# Altium footprint library Miscellaneous.PcbLib: 70 footprints (part 1 of 5)
Each footprint in its own frame and in the unit in brackets; x right, y up, seen from the top. Pads: shape width x height; smd on the part's side, far side on the other; paste and mask are expansions set on the pad; w line width, h text height; cw(c..) or ccw(c..) is an arc to the next point about the centre after c.
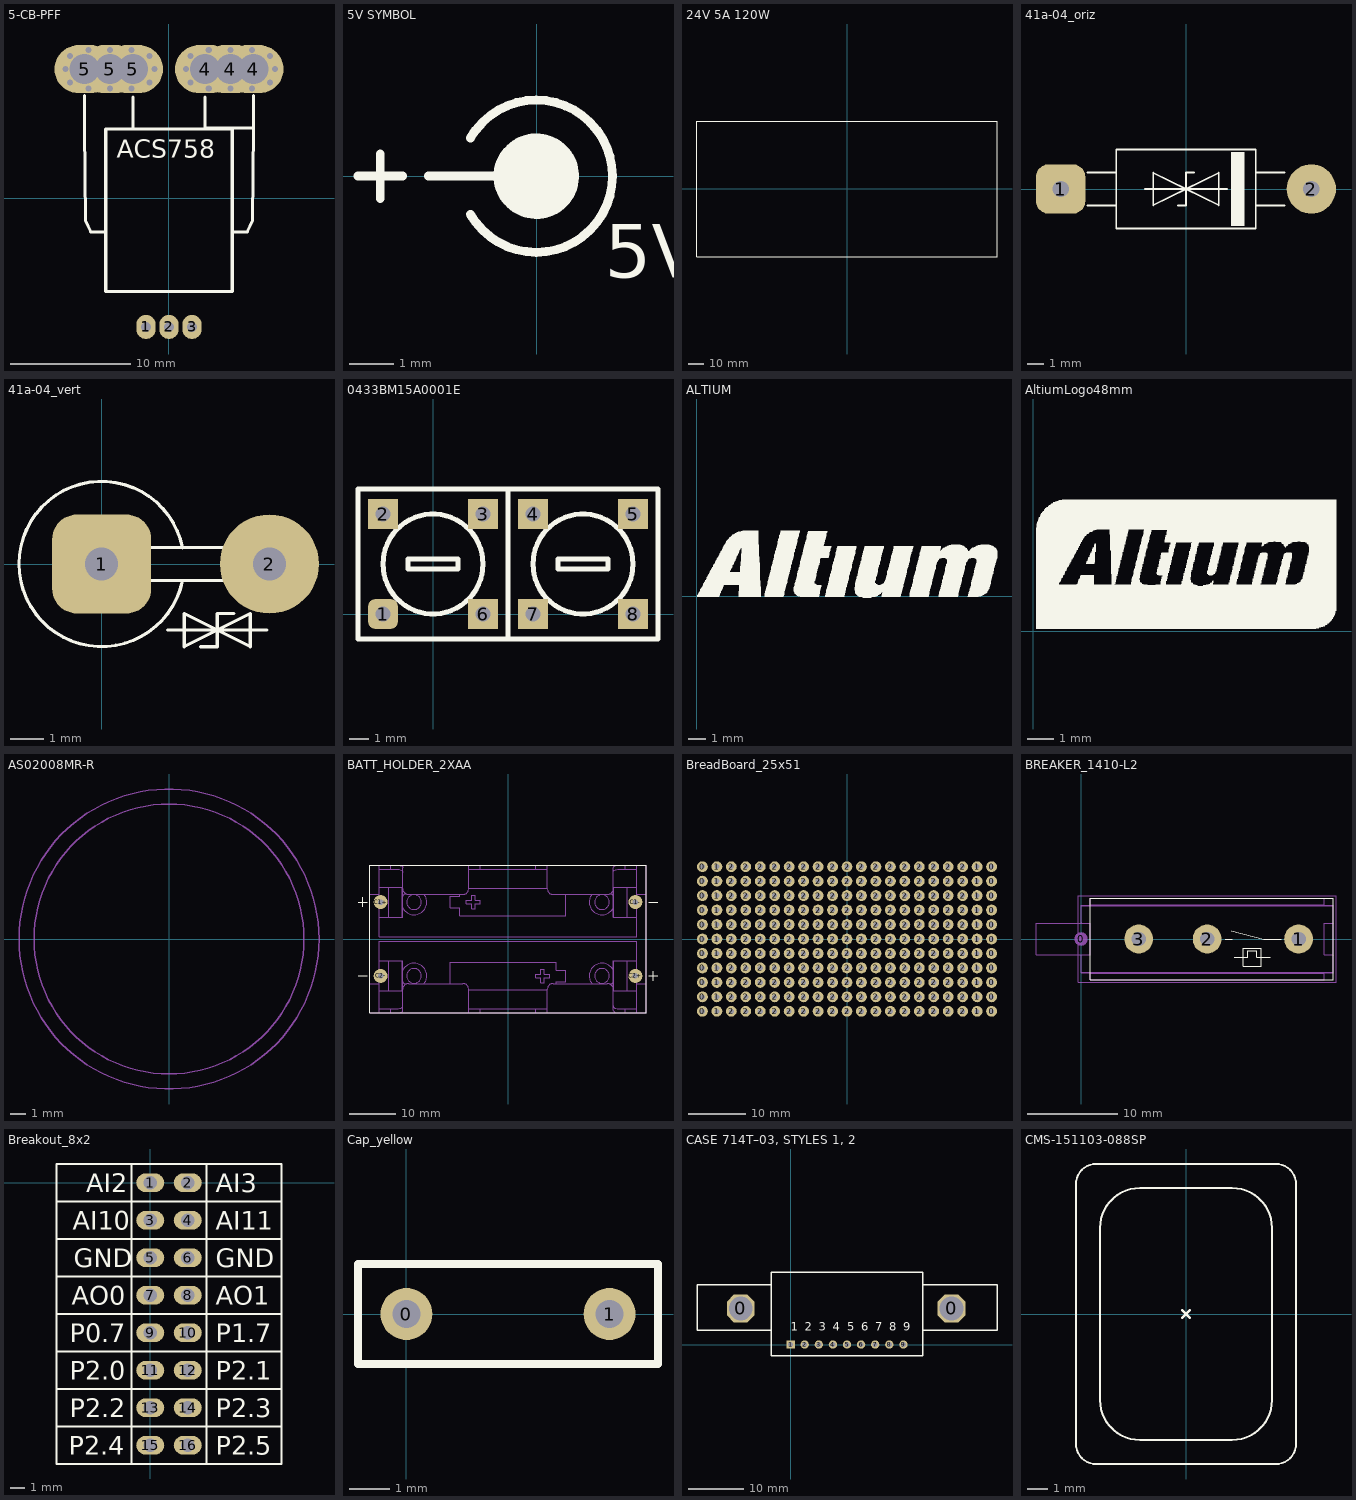
[diagram p0: the footprints below, top view; thin cyan lines are the x and y axes]

## 5-CB-PFF [mm]
pads (9):
  oval 1.6x2 hole 0.8: 1(-1.91,-10.7) 2(0,-10.7) 3(1.91,-10.7)
  oval 5x4 hole 2.5: 4(3,10.7) 4(5.1,10.7) 4(7,10.7) 5(-7,10.7) 5(-4.9,10.7) 5(-3,10.7)
via 1.4,10.7 diameter 0.7 hole 0.5
via 8.8,10.7 diameter 0.7 hole 0.5
via 8.4,9.6 diameter 0.7 hole 0.5
via 6.9,9.1 diameter 0.7 hole 0.5
via 5.1,9.1 diameter 0.7 hole 0.5
via 1.8,9.6 diameter 0.7 hole 0.5
via 3.3,9.1 diameter 0.7 hole 0.5
via 5.1,9.1 diameter 0.7 hole 0.5
via 1.8,11.8 diameter 0.7 hole 0.5
via 3.3,12.3 diameter 0.7 hole 0.5
via 5.1,12.3 diameter 0.7 hole 0.5
via 8.4,11.8 diameter 0.7 hole 0.5
via 6.9,12.3 diameter 0.7 hole 0.5
via 5.1,12.3 diameter 0.7 hole 0.5
via -4.9,12.3 diameter 0.7 hole 0.5
via -3.1,12.3 diameter 0.7 hole 0.5
via -1.6,11.8 diameter 0.7 hole 0.5
via -4.9,12.3 diameter 0.7 hole 0.5
via -6.7,12.3 diameter 0.7 hole 0.5
via -8.2,11.8 diameter 0.7 hole 0.5
via -4.9,9.1 diameter 0.7 hole 0.5
via -6.7,9.1 diameter 0.7 hole 0.5
via -8.2,9.6 diameter 0.7 hole 0.5
via -4.9,9.1 diameter 0.7 hole 0.5
via -3.1,9.1 diameter 0.7 hole 0.5
via -1.6,9.6 diameter 0.7 hole 0.5
via -1.2,10.7 diameter 0.7 hole 0.5
via -8.6,10.7 diameter 0.7 hole 0.5
Top Overlay:
  lines w0.25: -7,8.5 -7,5.8 -6.941,-1.9 -6.5,-2.8 -5.3,-2.8 ; -3,5.8 -3,8.4 ; 0,5.75 7,5.8 ; 3,8.4 3,5.8 7,5.8 ; 5.3,-2.8 6.5,-2.8 6.941,-1.9 7,5.8 ; 7,8.5 7,5.8 ; -5.25,-7.75 -5.25,5.75 5.25,5.75 5.25,-7.75 -5.25,-7.75
  text "ACS758" at -4.346,3.354 h1.52
3D body "ACS758.step": height 7.6, standoff -3.02, extent -7,-11.254 7,11.5

## 5V SYMBOL [mil]
Top Layer:
  text "BH-20" at 460,125 h60
Top Overlay:
  circle w39.37: c-0.27,-0.07 r18.03
  lines w7.87: -157.75,-0.07 -118.38,-0.07 ; -138.06,-19.76 -138.06,19.61 ; -95.38,-0.07 -0.27,-0.07 ; -58.52,-33.7 ccw(c-0.27,-0.07) -58.52,33.56
  text "5V DC" at 60,-90 h47.24

## 24V 5A 120W [mil]
Top Overlay:
  lines w3.94: -3937.01,-1781.5 3937.01,-1781.5 3937.01,1781.5 -3937.01,1781.5 -3937.01,-1781.5
3D body: height 1594.49, standoff 0, extent -3937.01,-1781.5 3937.01,1781.5

## 41a-04_oriz [mm] "Diode, Axial; Body ..."
height 5
pads (2):
  rrect50% 3x3 hole 1: 1(-7.62,0)
  round 3 hole 1: 2(7.62,0)
Top Overlay:
  rectangle: 2.75,-2.25 3.55,2.25
  lines w0.1: -6,-1 -4.25,-1 ; -6,1 -4.25,1 ; -2.5,0 2.5,0 ; 4.25,-1 6,-1 ; 4.25,1 6,1 ; 0,-1 0,1 ; 0,-1 -0.5,-1 0,-1 ; 0,-1 0,1 ; 0,0 -2,-1 -2,1 0,0 ; 0,0 2,-1 2,1 0,0 ; 0,1 0.5,1 0,1 ; -4.25,-2.4 4.25,-2.4 4.25,2.4 -4.25,2.4 -4.25,-2.4

## 41a-04_vert [mm] "Diode, Axial; Body ..."
height 5
pads (2):
  rrect50% 3x3 hole 1: 1(0,0)
  round 3 hole 1: 2(5.08,0)
Top Overlay:
  lines w0.1: 2,-2 5,-2 ; 2.45,-0.5 cw(c0,0) 2.451,0.49 ; 3,-2.5 3.5,-2.5 3.5,-2 ; 4,-1.5 3.5,-1.5 3.5,-2 ; 5.08,-0.506 ccw(c5.08,0) 5,0.5 0,0.5 ccw(c0,0) 0,-0.5 5.08,-0.5 ; 3.5,-2 4.5,-2.5 4.5,-1.5 3.5,-2 ; 3.5,-2 2.5,-1.5 2.5,-2.5 3.5,-2

## 0433BM15A0001E [mil]
pads (8):
  rrect50% 60x60 hole 30: 1(-100,0)
  rect 60x60 hole 30: 2(-100,200) 3(100,200) 4(200,200) 5(400,200) 6(100,0) 7(200,0) 8(400,0)
Top Overlay:
  circle w10: c0,100 r100
  circle w10: c300,100 r100
  lines w10: 150,-50 150,250 ; 150,-50 -150,-50 -150,250 150,250 ; 150,-50 450,-50 450,250 150,250 ; -50,90 50,90 50,110 -50,110 -50,90 ; 250,90 250,110 350,110 350,90 250,90
3D body: height 196.85, standoff 0, extent -99.98,0.02 99.98,199.98
3D body: height 177.17, standoff 0, extent -155,-55 455,255
3D body: height 196.85, standoff 0, extent 200.02,0.02 399.98,199.98
3D body: height 236.22, standoff 0, extent 250.02,90.02 349.98,109.98
3D body: height 236.22, standoff 0, extent -49.98,90.02 49.98,109.98

## ALTIUM [mil]
Top Overlay:
  drawing of 1207 lines, arcs and shapes, not listed

## AltiumLogo48mm [mil]
Top Overlay:
  drawing of 845 lines, arcs and shapes, not listed

## AS02008MR-R [mil]
height 125.98
Mechanical 1:
  circle w3.94: c0,0 r393.7
  circle w3.94: c0,0 r354.33
3D body: height 70.87, standoff 0, extent -354.33,-354.2 354.33,354.2
3D body: height 125.98, standoff 70.87, extent -393.7,-393.7 393.7,393.7

## BATT_HOLDER_2XAA [mil] "2-cell AA battery holder"
height 660
pads (4):
  round 120 hole 48: C1+(-1086.61,314.96) C1-(1086.61,314.96) C2+(1086.61,-314.96) C2-(-1086.61,-314.96)
Top Overlay:
  lines w5: -1279.53,-314.96 -1200.79,-314.96 ; -1279.53,314.96 -1200.79,314.96 ; -1240.16,275.59 -1240.16,354.33 ; 1200.79,-314.96 1279.53,-314.96 ; 1200.79,314.96 1279.53,314.96 ; 1240.16,-354.33 1240.16,-275.59
  lines w7.87: -1181.1,-629.92 -1181.1,629.92 1181.1,629.92 1181.1,-629.92 -1181.1,-629.92
Mechanical 13:
  drawing of 198 lines, arcs and shapes, not listed
3D body "2xAA Battery Holder.STEP": height 657.48, standoff -118.11, extent -1181.1,-629.91 1181.1,629.93

## BreadBoard_25x51 [mil] "Small 1\"x2\" breadboard section"
pads (231):
  round 75 hole 35: 0(-1000,-500) 0(-1000,-400) 0(-1000,-300) 0(-1000,-200) 0(-1000,-100) 0(-1000,0) 0(-1000,100) 0(-1000,200) 0(-1000,300) 0(-1000,400) 0(-1000,500) 0(1000,-500) 0(1000,-400) 0(1000,-300) 0(1000,-200) 0(1000,-100) 0(1000,0) 0(1000,100) 0(1000,200) 0(1000,300) 0(1000,400) 0(1000,500) 1(-900,-500) 1(-900,-400) 1(-900,-300) 1(-900,-200) 1(-900,-100) 1(-900,0) 1(-900,100) 1(-900,200) 1(-900,300) 1(-900,400) 1(-900,500) 1(900,-500) 1(900,-400) 1(900,-300) 1(900,-200) 1(900,-100) 1(900,0) 1(900,100) 1(900,200) 1(900,300) 1(900,400) 1(900,500) 2(-800,-500) 2(-800,-400) 2(-800,-300) 2(-800,-200) 2(-800,-100) 2(-800,0) 2(-800,100) 2(-800,200) 2(-800,300) 2(-800,400) 2(-800,500) 2(-700,-500) 2(-700,-400) 2(-700,-300) 2(-700,-200) 2(-700,-100) 2(-700,0) 2(-700,100) 2(-700,200) 2(-700,300) 2(-700,400) 2(-700,500) 2(-600,-500) 2(-600,-400) 2(-600,-300) 2(-600,-200) 2(-600,-100) 2(-600,0) 2(-600,100) 2(-600,200) 2(-600,300) 2(-600,400) 2(-600,500) 2(-500,-500) 2(-500,-400) 2(-500,-300) 2(-500,-200) 2(-500,-100) 2(-500,0) 2(-500,100) 2(-500,200) 2(-500,300) 2(-500,400) 2(-500,500) 2(-400,-500) 2(-400,-400) 2(-400,-300) 2(-400,-200) 2(-400,-100) 2(-400,0) 2(-400,100) 2(-400,200) 2(-400,300) 2(-400,400) 2(-400,500) 2(-300,-500) 2(-300,-400) 2(-300,-300) 2(-300,-200) 2(-300,-100) 2(-300,0) 2(-300,100) 2(-300,200) 2(-300,300) 2(-300,400) 2(-300,500) 2(-200,-500) 2(-200,-400) 2(-200,-300) 2(-200,-200) 2(-200,-100) 2(-200,0) 2(-200,100) 2(-200,200) 2(-200,300) 2(-200,400) 2(-200,500) 2(-100,-500) 2(-100,-400) 2(-100,-300) 2(-100,-200) 2(-100,-100) 2(-100,0) 2(-100,100) 2(-100,200) 2(-100,300) 2(-100,400) 2(-100,500) 2(0,-500) 2(0,-400) 2(0,-300) 2(0,-200) 2(0,-100) 2(0,0) 2(0,100) 2(0,200) 2(0,300) 2(0,400) 2(0,500) 2(100,-500) 2(100,-400) 2(100,-300) 2(100,-200) 2(100,-100) 2(100,0) 2(100,100) 2(100,200) 2(100,300) 2(100,400) 2(100,500) 2(200,-500) 2(200,-400) 2(200,-300) 2(200,-200) 2(200,-100) 2(200,0) 2(200,100) 2(200,200) 2(200,300) 2(200,400) 2(200,500) 2(300,-500) 2(300,-400) 2(300,-300) 2(300,-200) 2(300,-100) 2(300,0) 2(300,100) 2(300,200) 2(300,300) 2(300,400) 2(300,500) 2(400,-500) 2(400,-400) 2(400,-300) 2(400,-200) 2(400,-100) 2(400,0) 2(400,100) 2(400,200) 2(400,300) 2(400,400) 2(400,500) 2(500,-500) 2(500,-400) 2(500,-300) 2(500,-200) 2(500,-100) 2(500,0) 2(500,100) 2(500,200) 2(500,300) 2(500,400) 2(500,500) 2(600,-500) 2(600,-400) 2(600,-300) 2(600,-200) 2(600,-100) 2(600,0) 2(600,100) 2(600,200) 2(600,300) 2(600,400) 2(600,500) 2(700,-500) 2(700,-400) 2(700,-300) 2(700,-200) 2(700,-100) 2(700,0) 2(700,100) 2(700,200) 2(700,300) 2(700,400) 2(700,500) 2(800,-500) 2(800,-400) 2(800,-300) 2(800,-200) 2(800,-100) 2(800,0) 2(800,100) 2(800,200) 2(800,300) 2(800,400) 2(800,500)

## BREAKER_1410-L2 [mm] "E-T-A Thermal Overcurrent Circuit Breaker 1410-L2"
height 10.8
pads (4):
  round 1.5 on Mech15: 0(0,0)
  round 3.2 hole 1.6: 1(24.15,0) 2(14,0) 3(6.4,0)
Top Overlay:
  lines w0.127: 16,0 16.8,0 ; 16.7,0.9 20.3,0 22.2,0 ; 17,-2 18.5,-2 18.5,-1.3 19.5,-1.3 19.5,-2 21,-2 ; 1,-4.5 28,-4.5 28,4.5 1,4.5 1,-4.5 ; 18,-3 20,-3 20,-1 18,-1 18,-3
Mechanical 13:
  lines w0.05: 0,-3.7 28,-3.7 ; 0,-1.8 0.05,-1.75 ; 0,-1.75 0,-3.75 28,-3.75 28,3.75 0,3.75 0,1.75 ; 0,1.8 0.05,1.75 ; 0,3.7 28,3.7 ; 1,-3.8 27,-3.8 ; 1,-3.75 1,-4.5 27,-4.5 27,-3.75 ; 1,3.75 1,4.5 27,4.5 27,3.75 ; 1,3.8 27,3.8 ; 28,-1.8 27.95,-1.75 ; 28,-1.7 27.95,-1.75 ; 28,1.7 27.95,1.75 ; 28,1.8 27.95,1.75 ; 27.95,-1.75 27,-1.75 27,1.75 27.95,1.75 ; -5,-1.75 1,-1.75 1,1.75 -5,1.75 -5,-1.75
Mechanical 15:
  lines w0.127: -0.3,-4.8 -0.3,4.8 28.3,4.8 28.3,-4.8 -0.3,-4.8
3D body "Circuit Breaker 1410-L2.STEP": height 10.8, standoff -3.3, extent -5,-4.5 28,4.5

## Breakout_8x2 [mil] "Small DAQ breakout for hookup to breadboard section"
pads (16):
  oval 75x50 hole 35: 1(0,0) 2(100,0) 3(0,-100) 4(100,-100) 5(0,-200) 6(100,-200) 7(0,-300) 8(100,-300) 9(0,-400) 10(100,-400) 11(0,-500) 12(100,-500) 13(0,-600) 14(100,-600) 15(0,-700) 16(100,-700)
Top Overlay:
  lines w5: -250,-650 350,-650 ; -250,-550 350,-550 ; -250,-450 350,-450 ; -250,-350 350,-350 ; -250,-250 350,-250 ; -250,-150 350,-150 ; -250,-50 350,-50 ; -50,-750 -50,50 ; -50,-750 150,-750 ; -50,-750 -250,-750 -250,50 -50,50 ; -50,50 150,50 ; 150,-750 150,50 ; 150,-750 350,-750 350,50 150,50
  text "AI3" at 175,-25 h50
  text "AI11" at 175,-125 h50
  text "P2.0" at -215,-525 h50
  text "P2.2" at -215,-625 h50
  text "P2.4" at -217.38,-725 h50
  text "P2.1" at 175,-525 h50
  text "P2.3" at 175,-625 h50
  text "P2.5" at 175,-725 h50
  text "P1.7" at 175,-425 h50
  text "P0.7" at -215,-425 h50
  text "AO1" at 175,-325 h50
  text "AO0" at -209.76,-325 h50
  text "AI10" at -207.14,-125 h50
  text "AI2" at -170.49,-25 h50
  text "GND" at -204.53,-225 h50
  text "GND" at 175,-225 h50

## Cap_yellow [mm]
pads (2):
  round 1.3 hole 0.7: 0(0,0) 1(5.08,0)
Top Overlay:
  lines w0.2: -1.21,-1.25 -1.21,1.25 6.29,1.25 6.29,-1.25 -1.21,-1.25
3D body "Cap yellow.stp": height 6.5, standoff -3, extent -1.25,-1.25 6.25,1.25

## CASE 714T–03, STYLES 1, 2 [mm] "CASE 714T–03 ISSUE B"
height 12.57
pads (11):
  oct 5x5 hole 4.27: 0(-9,6.5) 0(29,6.5)
  rect 1.5x1.5 hole 0.9: 1(0,0)
  round 1.5 hole 0.9: 2(2.54,0) 3(5.08,0) 4(7.62,0) 5(10.16,0) 6(12.7,0) 7(15.24,0) 8(17.78,0) 9(20.32,0)
Top Overlay:
  lines w0.254: -9,6.5 -9,8 ; -3.46,2.54 -16.86,2.54 -16.86,10.8 -3.46,10.8 ; 23.78,10.8 37.18,10.8 37.18,2.54 ; 29,6.5 29,8 ; 37.18,6.5 37.18,2.54 ; 37.18,2.54 23.78,2.54 32.42,2.54 37.18,2.54 ; -3.46,-2 -3.46,13 10.16,13 23.78,13 23.78,-2 -3.46,-2
  text "9" at 20.32,2.5 h1.52
  text "8" at 17.78,2.5 h1.52
  text "7" at 15.24,2.5 h1.52
  text "6" at 12.7,2.5 h1.52
  text "5" at 10.16,2.5 h1.52
  text "4" at 7.62,2.5 h1.52
  text "3" at 5.08,2.5 h1.52
  text "2" at 2.54,2.5 h1.52
  text "1" at 0,2.5 h1.52

## CMS-151103-088SP [mil]
height 125.98
Top Overlay:
  lines w3.94: -7.87,-7.87 7.87,7.87 ; -7.87,7.87 7.87,-7.87 ; -216.54,-255.91 ccw(c-177.17,-255.91) -177.17,-295.28 177.17,-295.28 ccw(c177.17,-255.91) 216.54,-255.91 216.54,255.91 ccw(c177.17,255.91) 177.17,295.28 -177.17,295.28 ccw(c-177.17,255.91) -216.54,255.91 -216.54,-255.91 ; -169.29,-169.29 ccw(c-90.55,-169.29) -90.55,-248.03 90.55,-248.03 ccw(c90.55,-169.29) 169.29,-169.29 169.29,169.29 ccw(c90.55,169.29) 90.55,248.03 -90.55,248.03 ccw(c-90.55,169.29) -169.29,169.29 -169.29,-169.29
3D body: height 125.98, standoff 0, extent -216.54,-295.28 216.54,295.28